# Altium schematic symbol library IC. Sensor.SchLib: 16 symbols
Pins are listed as number, name and electrical type; pins without a type are passive.

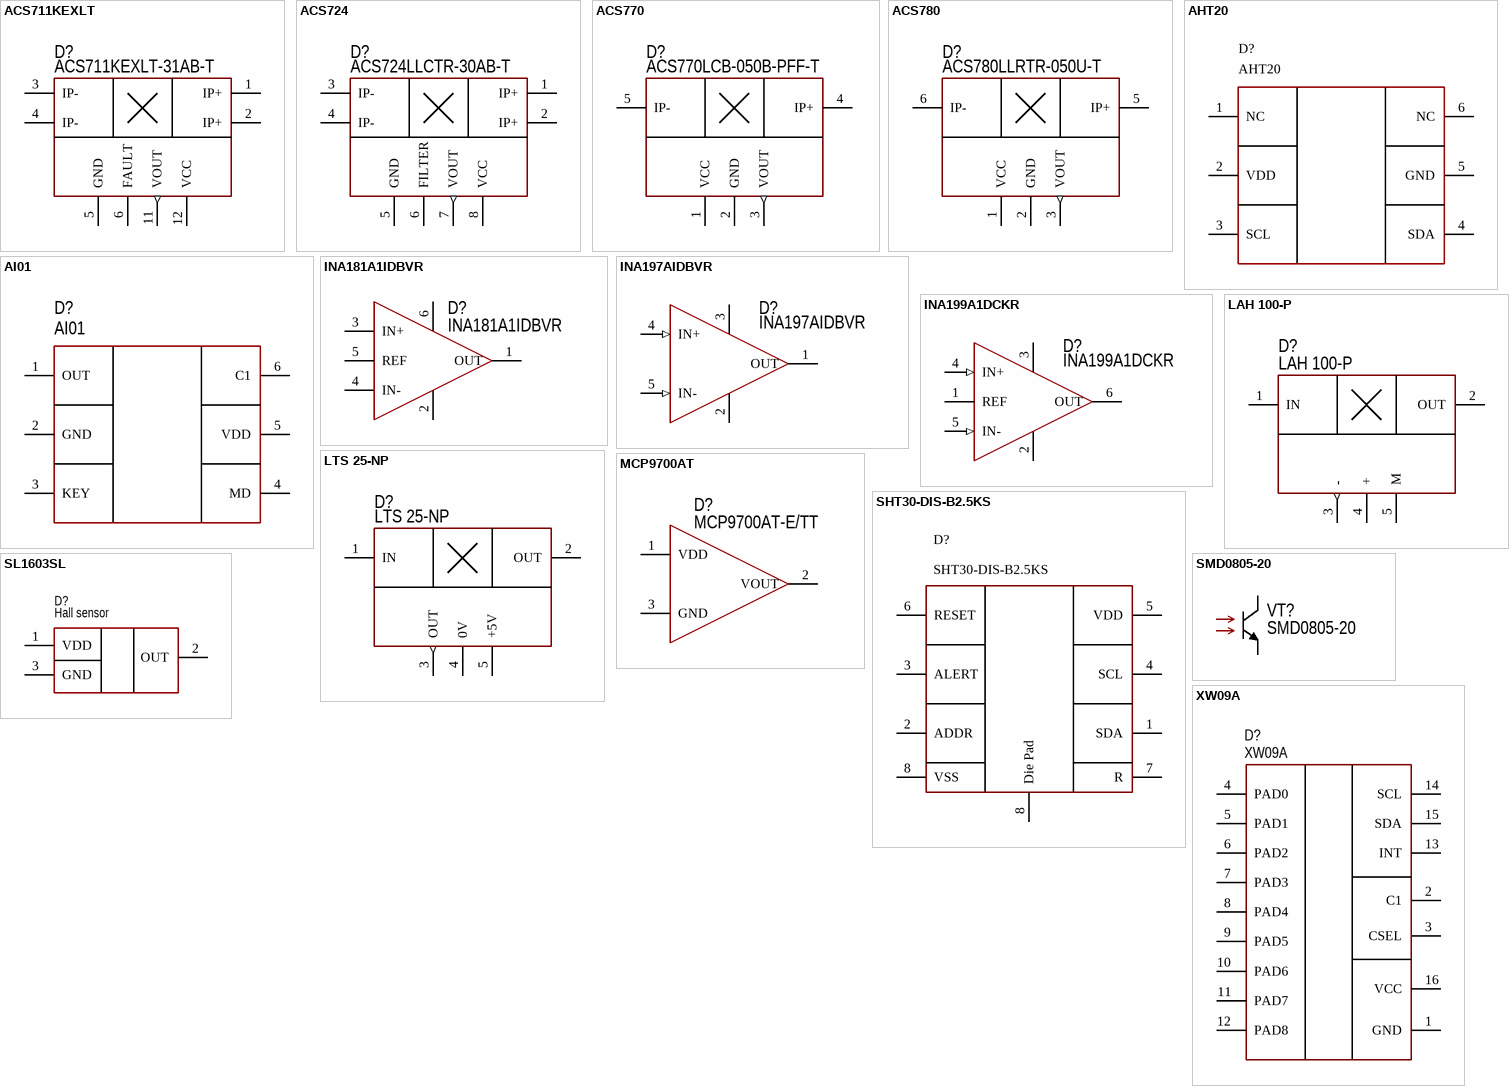
[diagram p0: symbols ACS711KEXLT to XW09A]

## ACS711KEXLT
designator D?  PartNumber: ACS711KEXLT-31AB-T
Current sensors; Manufacturer: Allegro MicroSystems; ValueManufacturerPartNumber: IC current sensors, 31A, ±0.6%, 100 kHz, 45mV/A, -40...+125°C, 12-PowerWFQFN; Supply: 3...5.5V; Accuracy: ±0.6%; GainBandwidth: 100 kHz; Sensitivity: 45mV/A; Sensing: 31A; HelpURL: https://www.digikey.com/product-detail/en/allegro-microsystems-llc/ACS711KEXLT-31AB-T/620-1482-1-ND/3868202; Package: 12-PowerWFQFN; ComponentType: IC current sensors; Temperature: -40...+125°C
footprint SENSOR: ACS711KEXLT
pins: 1 IP+, 2 IP+, 3 IP-, 4 IP-, 5 GND, 6 FAULT, 11 VOUT (out), 12 VCC

## ACS724
designator D?  PartNumber: ACS724LLCTR-30AB-T
Current sensors; Manufacturer: Allegro MicroSystems; ValueManufacturerPartNumber: IC current sensors, 30A, ±0.6%, 120 kHz, 66mV/A, -40...+150°C, 8-SOIC; Supply: 4.5...5.5V; Accuracy: ±0.6%; GainBandwidth: 120 kHz; Sensitivity: 66mV/A; Sensing: 30A; HelpURL: https://www.digikey.com/product-detail/en/allegro-microsystems-llc/ACS724LLCTR-30AB-T/620-1722-1-ND/5175299; Package: 8-SOIC; ComponentType: IC current sensors; Temperature: -40...+150°C
footprint 8-SOIC (pitch 1.27 mm)
pins: 1 IP+, 2 IP+, 3 IP-, 4 IP-, 5 GND, 6 FILTER, 7 VOUT (out), 8 VCC

## ACS770
designator D?  PartNumber: ACS770LCB-050B-PFF-T
Current sensors; Manufacturer: Allegro MicroSystems; ValueManufacturerPartNumber: IC current sensors, 50A, ±0.6%, 120 kHz, 40mV/A, -40...+150°C, 5-CB Module; Supply: 5V; Accuracy: ±0.6%; GainBandwidth: 120 kHz; Sensitivity: 40mV/A; Sensing: 50A; HelpURL: https://www.digikey.com/product-detail/en/texas-instruments/INA197AIDBVR/296-38949-1-ND/5143044; Package: 5-CB Module; ComponentType: IC current sensors; Temperature: -40...+150°C
footprint SENSOR: ACS770
pins: 1 VCC, 2 GND, 3 VOUT (out), 4 IP+, 5 IP-

## ACS780
designator D?  PartNumber: ACS780LLRTR-050U-T
Current sensors; Manufacturer: Allegro MicroSystems; ValueManufacturerPartNumber: IC current sensors, 50A, ±1.5%, 120 kHz, 60mV/A, -40...+150°C, 7-PSOF; Supply: 4.5...5.5V; Accuracy: ±1.5%; GainBandwidth: 120 kHz; Sensitivity: 60mV/A; Sensing: 50A; HelpURL: https://www.digikey.com/product-detail/en/allegro-microsystems-llc/ACS780LLRTR-050U-T/620-1818-1-ND/6189107; Package: 7-PSOF; ComponentType: IC current sensors; Temperature: -40...+150°C
footprint SENSOR: ACS781
pins: 1 VCC, 2 GND, 3 VOUT (out), 5 IP+, 6 IP-

## AHT20
designator D?
Temperature & Humidity Sensor; LCSC_PartNumber: *
footprint IC: AHT20
pins: 1 NC, 2 VDD, 3 SCL, 4 SDA, 5 GND, 6 NC

## AI01
designator D?
Touch sensor
footprint SOT23-6 (pitch 0.95 mm)
pins: 1 OUT, 2 GND, 3 KEY, 4 MD, 5 VDD, 6 C1

## INA181A1IDBVR
designator D?  PartNumber: INA181A1IDBVR
Current monitor; Manufacturer: Texas Instruments; ValueManufacturerPartNumber: IC current monitor, ±3%, 350 kHz, 2.7...5.5V, -40...+125°C, SOT23-6; Supply: 2.7...5.5V; Accuracy: ±3%; GainBandwidth: 350 kHz; HelpURL: https://www.digikey.com/product-detail/en/texas-instruments/INA181A1IDBVR/296-47656-1-ND/8133025; Package: SOT23-6; ComponentType: IC current monitor; Temperature: -40...+125°C
footprint SOT23-6 (pitch 0.95 mm)
pins: 1 OUT (power), 2 V- (power), 3 IN+, 4 IN-, 5 REF, 6 V+ (power)

## INA197AIDBVR
designator D?  PartNumber: INA197AIDBVR
Current monitor; Manufacturer: Texas Instruments; ValueManufacturerPartNumber: IC current monitor, ±3%, 5.5 MHz, -16...+80V, -40...+125°C, SOT23-5; Supply: -16...+80V; Accuracy: ±3%; GainBandwidth: 5.5 MHz; HelpURL: https://www.digikey.com/product-detail/en/texas-instruments/INA197AIDBVR/296-38949-1-ND/5143044; Package: SOT23-5; ComponentType: IC current monitor; Temperature: -40...+125°C
footprint SOT23-5 (pitch 0.95 mm)
pins: 1 OUT (power), 2 V- (power), 3 V+ (power), 4 IN+ (in), 5 IN- (in)

## INA199A1DCKR
designator D?  PartNumber: INA199A1DCKR
Current monitor; Manufacturer: Texas Instruments; ValueManufacturerPartNumber: IC current monitor, ±1.5%, 50V/V, -0.3...+26V, -40...+125°C, SOT23-5; Supply: -0.3...+26V; Accuracy: ±1.5%; GainBandwidth: 50V/V; HelpURL: https://www.digikey.com/product-detail/en/texas-instruments/INA199A1DCKR/296-27329-1-ND/2279290; Package: SOT23-5; ComponentType: IC current monitor; Temperature: -40...+125°C
footprint SC70-6 (SOT23, 5-Leads, Body 2,90x2,80mm, Pitch 0,95mm, IPC Medium Density)
pins: 1 REF (power), 2 V- (power), 3 V+ (power), 4 IN+ (in), 5 IN- (in), 6 OUT (power)

## LAH 100-P
designator D?  PartNumber: LAH 100-P
Current sensors; Manufacturer: LEM; ValueManufacturerPartNumber: IC current sensors, 100A, ±0.2%, 200 kHz, 1:20000, -25...+85°C; Supply: ±12V; Accuracy: ±0.2%; GainBandwidth: 200 kHz; Sensitivity: 1:20000; Sensing: 100A; HelpURL: https://www.digikey.com/product-detail/en/lem-usa-inc/LAH-100-P/398-1009-ND/409822; Package: Module; ComponentType: IC current sensors; Temperature: -25...+85°C
footprint SENSOR: LAH 100-P
pins: 1 IN, 2 OUT, 3 - (out), 4 +, 5 M

## LTS 25-NP
designator D?  PartNumber: LTS 25-NP
Current sensors; Manufacturer: LEM; ValueManufacturerPartNumber: IC current sensors, 25A, ±0.2%, 200 kHz, 25mV/A, -40...+85°C; Supply: 5V; Accuracy: ±0.2%; GainBandwidth: 200 kHz; Sensitivity: 25mV/A; Sensing: 25A; HelpURL: https://www.digikey.com/product-detail/en/texas-instruments/INA197AIDBVR/296-38949-1-ND/5143044; Package: Module; ComponentType: IC current sensors; Temperature: -40...+85°C
footprint SENSOR: LTS 25-NP
pins: 1 IN, 2 OUT, 3 OUT (out), 4 0V, 5 +5V

## MCP9700AT
designator D?  PartNumber: MCP9700AT-E/TT
Current sensors; Manufacturer: Microchip; ValueManufacturerPartNumber: IC temperature sensors, Analog sensor, ±2°C, Voltage output, 10mV/°C, -40...+125°C, SOT-23-6; Supply: 2.3...5.5V; Accuracy: ±2°C; GainBandwidth: Voltage output; Sensitivity: 10mV/°C; Sensing: Analog sensor; HelpURL: https://www.digikey.com/product-detail/en/microchip-technology/MCP9700AT-E-TT/MCP9700AT-E-TTCT-ND/3622388; Package: SOT-23-6; ComponentType: IC temperature sensors; Temperature: -40...+125°C
footprint SOT23
pins: 1 VDD, 2 VOUT, 3 GND

## SHT30-DIS-B2.5KS
designator D?
Humidity and Temperature Sensor
footprint 8-DFN (3x3, 0.5 mm) (3x3 mm, pitch 0.5 mm, power pad)
pins: 1 SDA, 2 ADDR, 3 ALERT, 4 SCL, 5 VDD, 6 RESET, 7 R, 8 VSS, 8 Die Pad

## SL1603SL
designator D?, comment Hall sensor
footprint SOT23
pins: 1 VDD, 2 OUT, 3 GND

## SMD0805-20
designator VT?  PartNumber: SMD0805-20
Current sensors; Manufacturer: Senba Sensing Tech; ValueManufacturerPartNumber: Opto-transistor sensors, Analog sensor, 100 Lux, 1mA output, 70mW, -40...+80°C, 0805; Supply: 1.3...5.5V; Accuracy: 100 Lux; GainBandwidth: 1mA output; Sensitivity: 70mW; Sensing: Analog sensor; HelpURL: https://lcsc.com/product-detail/Ambient-Light-Sensors_Senba-Sensing-Tech-SMD0805-20_C250858.html; Package: 0805; ComponentType: Opto-transistor sensors; Temperature: -40...+80°C
footprint LED: 0805B
pins: 1 E, 2 C

## XW09A
designator D?
Touch sensor
footprint 16-SO (pitch 1.27 mm)
pins: 1 GND, 2 C1, 3 CSEL, 4 PAD0, 5 PAD1, 6 PAD2, 7 PAD3, 8 PAD4, 9 PAD5, 10 PAD6, 11 PAD7, 12 PAD8, 13 INT, 14 SCL, 15 SDA, 16 VCC